# Altium schematic symbol library CONN-9-PIN.SchLib: 1 symbol
Pins are listed as number, name and electrical type; pins without a type are passive.

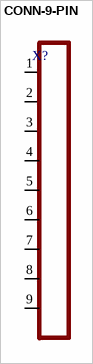
[diagram p0: symbol CONN-9-PIN]

## CONN-9-PIN
designator X?
pins: 1, 2, 3, 4, 5, 6, 7, 8, 9